# Altium schematic symbol library Interface_CAN_LIN.SchLib: 88 symbols
Pins are listed as number, name and electrical type; pins without a type are passive.

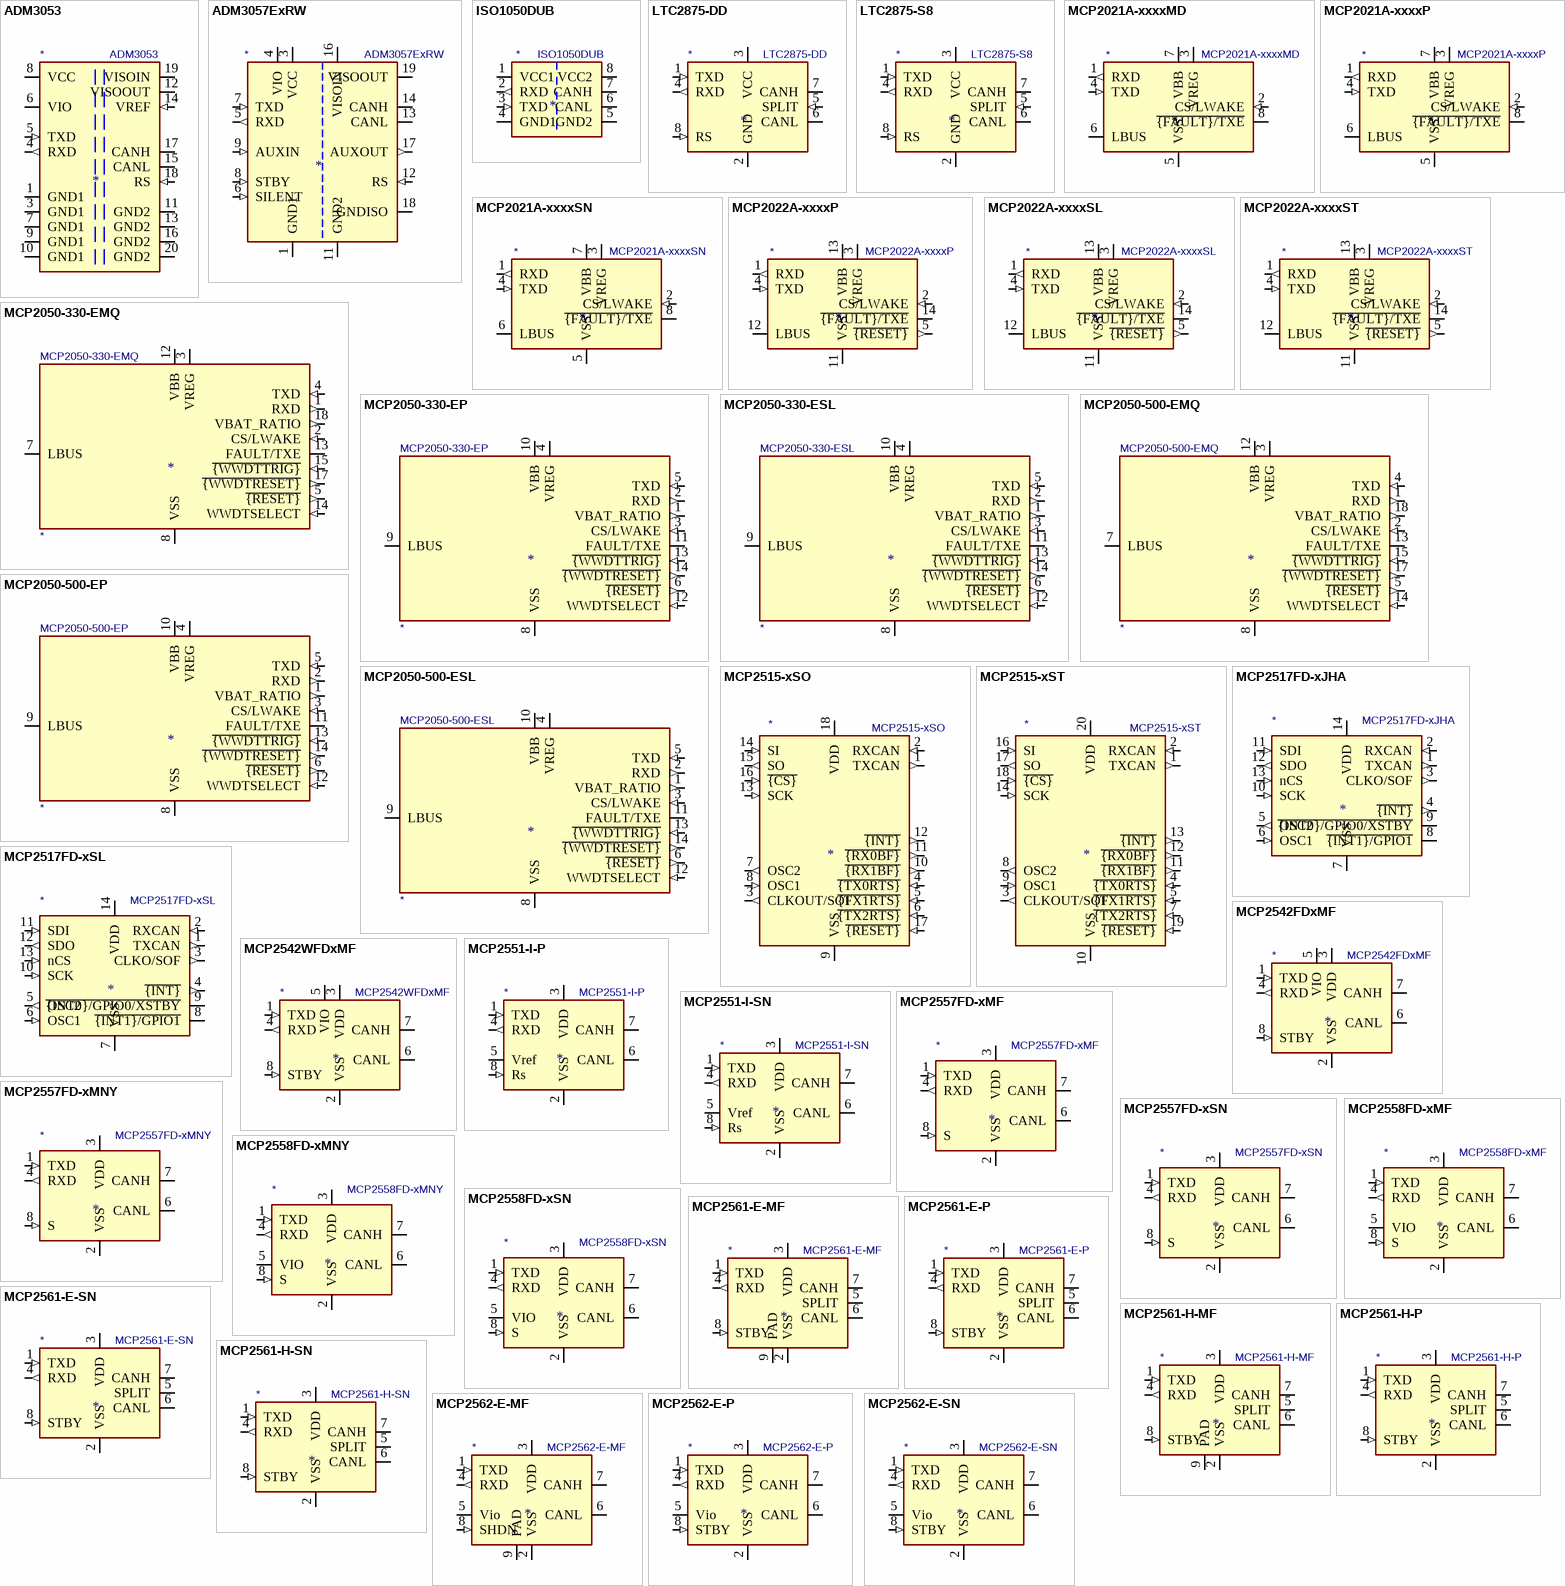
[diagram p0: symbols ADM3053 to MCP2562-E-SN]

## ADM3053
designator *  value ADM3053
ki_keywords: can transceiver isolated protected; ki_description: Isolated CAN Transceiver, integrated isolated DC-DC converter, 1Mbps; ki_fp_filters: SOIC*P1.27mm*; Footprint: Package_SO:SOIC-20W_7.5x12.8mm_P1.27mm; Supplier: https://www.analog.com/media/en/technical-documentation/data-sheets/ADM3053.pdf
footprint SOIC-20W_7.5x12.8mm_P1.27mm
pins: 1 GND1 (power), 2 NC (in) hidden, 3 GND1 (power), 4 RXD (out), 5 TXD (in), 6 VIO (power), 7 GND1 (power), 8 VCC (power), 9 GND1 (power), 10 GND1 (power), 11 GND2 (power), 12 VISOOUT (power), 13 GND2 (power), 14 VREF (in), 15 CANL (io), 16 GND2 (power), 17 CANH (io), 18 RS (in), 19 VISOIN (power), 20 GND2 (power)

## ADM3057ExRW
designator *  value ADM3057ExRW
ki_keywords: can transceiver isolated protected; ki_description: Isolated CAN FD Transceiver, integrated isolated DC-DC converter, 12Mbps, SOIC-20W; ki_fp_filters: SOIC*P1.27mm*; Footprint: Package_SO:SOIC-20W_7.5x12.8mm_P1.27mm; Supplier: https://www.analog.com/media/en/technical-documentation/data-sheets/ADM3055E-3057E.pdf
footprint SOIC-20W_7.5x12.8mm_P1.27mm
pins: 1 GND1 (power), 2 GND1 hidden, 3 VCC (power), 4 VIO (power), 5 RXD (out), 6 SILENT (in), 7 TXD (in), 8 STBY (in), 9 AUXIN (in), 10 GND1 hidden, 11 GND2, 12 RS (in), 13 CANL (io), 14 CANH (io), 15 GND2 hidden, 16 VISOIN, 17 AUXOUT (out), 18 GNDISO, 19 VISOOUT, 20 GNDISO hidden

## ISO1050DUB
designator *  value ISO1050DUB
ki_keywords: CAN Isolated; ki_description: Isolated CAN Transceiver, SOP-8; ki_fp_filters: SOP*6.62x9.15mm*P2.54mm*; Footprint: Package_SO:SOP-8_6.62x9.15mm_P2.54mm; Supplier: http://www.ti.com/lit/ds/symlink/iso1050.pdf
footprint SOP-8_6.62x9.15mm_P2.54mm
pins: 1 VCC1 (power), 2 RXD (out), 3 TXD (in), 4 GND1 (power), 5 GND2 (power), 6 CANL (io), 7 CANH (io), 8 VCC2 (power)

## LTC2875-DD
designator *  value LTC2875-DD
ki_keywords: High-Speed CAN Transceiver; ki_description: High-Speed CAN Transceiver, 4Mbps, 3.3V or 5V supply, DFN-8; ki_fp_filters: DFN*1EP*3x3mm*P0.5mm*; Footprint: Package_DFN_QFN:DFN-8-1EP_3x3mm_P0.5mm_EP1.66x2.38mm; Supplier: https://www.analog.com/media/en/technical-documentation/data-sheets/2875f.pdf
footprint DFN-8-1EP_3x3mm_P0.5mm_EP1.66x2.38mm
pins: 1 TXD (in), 2 GND (power), 3 VCC (power), 4 RXD (out), 5 SPLIT (in), 6 CANL (io), 7 CANH (io), 8 RS (in), 9 GND hidden

## LTC2875-S8
designator *  value LTC2875-S8
ki_keywords: High-Speed CAN Transceiver; ki_description: High-Speed CAN Transceiver, 4Mbps, 3.3V or 5V supply, SOIC-8; ki_fp_filters: SOIC*P1.27mm*; Footprint: Package_SO:SOIC-8_3.9x4.9mm_P1.27mm; Supplier: https://www.analog.com/media/en/technical-documentation/data-sheets/2875f.pdf
footprint SOIC-8_3.9x4.9mm_P1.27mm
pins: 1 TXD (in), 2 GND (power), 3 VCC (power), 4 RXD (out), 5 SPLIT (in), 6 CANL (io), 7 CANH (io), 8 RS (in)

## MCP2021A-xxxxMD
designator *  value MCP2021A-xxxxMD
ki_keywords: LIN Transceiver regulator; ki_description: LIN Transceiver with Voltage Regulator, 3.3V/5V, DFN-8; ki_fp_filters: DFN*4x4mm*P0.8mm*EP2.5x3.6mm*; Footprint: Package_DFN_QFN:DFN-8-1EP_4x4mm_P0.8mm_EP2.5x3.6mm; Supplier: http://ww1.microchip.com/downloads/en/DeviceDoc/20002298C.pdf
footprint DFN-8-1EP_4x4mm_P0.8mm_EP2.5x3.6mm
pins: 1 RXD (out), 2 CS/LWAKE (in), 3 VREG (power), 4 TXD (in), 5 VSS (power), 6 LBUS (oc), 7 VBB (power), 8 ~{{FAULT}/TXE} (oc), 9 VSS hidden

## MCP2021A-xxxxP
designator *  value MCP2021A-xxxxP
ki_keywords: LIN Transceiver regulator; ki_description: LIN Transceiver with Voltage Regulator, 3.3V/5V, DIP-8; ki_fp_filters: DIP*W7.62mm*; Footprint: Package_DIP:DIP-8_W7.62mm; Supplier: http://ww1.microchip.com/downloads/en/DeviceDoc/20002298C.pdf
footprint DIP-8_W7.62mm
pins: 1 RXD (out), 2 CS/LWAKE (in), 3 VREG (power), 4 TXD (in), 5 VSS (power), 6 LBUS (oc), 7 VBB (power), 8 ~{{FAULT}/TXE} (oc)

## MCP2021A-xxxxSN
designator *  value MCP2021A-xxxxSN
ki_keywords: LIN Transceiver regulator; ki_description: LIN Transceiver with Voltage Regulator, 3.3V/5V, SOIC-8; ki_fp_filters: SOIC*3.9x4.9mm*P1.27mm*; Footprint: Package_SO:SOIC-8_3.9x4.9mm_P1.27mm; Supplier: http://ww1.microchip.com/downloads/en/DeviceDoc/20002298C.pdf
footprint SOIC-8_3.9x4.9mm_P1.27mm
pins: 1 RXD (out), 2 CS/LWAKE (in), 3 VREG (power), 4 TXD (in), 5 VSS (power), 6 LBUS (oc), 7 VBB (power), 8 ~{{FAULT}/TXE} (oc)

## MCP2022A-xxxxP
designator *  value MCP2022A-xxxxP
ki_keywords: LIN Transceiver regulator; ki_description: LIN Transceiver with Voltage Regulator, 3.3V/5V, DIP-14; ki_fp_filters: DIP*W7.62mm*; Footprint: Package_DIP:DIP-14_W7.62mm; Supplier: http://ww1.microchip.com/downloads/en/DeviceDoc/20002298C.pdf
footprint DIP-14_W7.62mm
pins: 1 RXD (out), 2 CS/LWAKE (in), 3 VREG (power), 4 TXD (in), 5 ~{{RESET}} (out), 6 NC (in) hidden, 7 NC (in) hidden, 8 NC (in) hidden, 9 NC (in) hidden, 10 NC (in) hidden, 11 VSS (power), 12 LBUS (oc), 13 VBB (power), 14 ~{{FAULT}/TXE} (oc)

## MCP2022A-xxxxSL
designator *  value MCP2022A-xxxxSL
ki_keywords: LIN Transceiver regulator; ki_description: LIN Transceiver with Voltage Regulator, 3.3V/5V, SOIC-14; ki_fp_filters: SOIC*3.9x8.7mm*P1.27mm*; Footprint: Package_SO:SOIC-14_3.9x8.7mm_P1.27mm; Supplier: http://ww1.microchip.com/downloads/en/DeviceDoc/20002298C.pdf
footprint SOIC-14_3.9x8.7mm_P1.27mm
pins: 1 RXD (out), 2 CS/LWAKE (in), 3 VREG (power), 4 TXD (in), 5 ~{{RESET}} (out), 6 NC (in) hidden, 7 NC (in) hidden, 8 NC (in) hidden, 9 NC (in) hidden, 10 NC (in) hidden, 11 VSS (power), 12 LBUS (oc), 13 VBB (power), 14 ~{{FAULT}/TXE} (oc)

## MCP2022A-xxxxST
designator *  value MCP2022A-xxxxST
ki_keywords: LIN Transceiver regulator; ki_description: LIN Transceiver with Voltage Regulator, 3.3V/5V, TSSOP-14; ki_fp_filters: TSSOP*4.4x5mm*P0.65mm*; Footprint: Package_SO:TSSOP-14_4.4x5mm_P0.65mm; Supplier: http://ww1.microchip.com/downloads/en/DeviceDoc/20002298C.pdf
footprint TSSOP-14_4.4x5mm_P0.65mm
pins: 1 RXD (out), 2 CS/LWAKE (in), 3 VREG (power), 4 TXD (in), 5 ~{{RESET}} (out), 6 NC (in) hidden, 7 NC (in) hidden, 8 NC (in) hidden, 9 NC (in) hidden, 10 NC (in) hidden, 11 VSS (power), 12 LBUS (oc), 13 VBB (power), 14 ~{{FAULT}/TXE} (oc)

## MCP2050-330-EMQ
designator *  value MCP2050-330-EMQ
ki_keywords: LIN transceiver regulator; ki_description: LIN Transceiver with Voltage Regulator, 3.3V, QFN-20; ki_fp_filters: QFN*1EP*5x5mm*P0.65mm*; Footprint: Package_DFN_QFN:QFN-20-1EP_5x5mm_P0.65mm_EP3.35x3.35mm; Supplier: http://ww1.microchip.com/downloads/en/DeviceDoc/22299B.pdf
footprint QFN-20-1EP_5x5mm_P0.65mm_EP3.35x3.35mm
pins: 1 RXD (out), 2 CS/LWAKE (in), 3 VREG (power), 4 TXD (in), 5 ~{{RESET}} (out), 6 NC (in) hidden, 7 LBUS (oc), 8 VSS (power), 9 NC (in) hidden, 10 NC (in) hidden, 11 NC (in) hidden, 12 VBB (power), 13 FAULT/TXE (oc), 14 WWDTSELECT (in), 15 ~{{WWDTTRIG}} (in), 16 NC (in) hidden, 17 ~{{WWDTRESET}} (out), 18 VBAT_RATIO (out), 19 NC (in) hidden, 20 NC (in) hidden, 21 PAD (in) hidden

## MCP2050-330-EP
designator *  value MCP2050-330-EP
ki_keywords: LIN transceiver regulator; ki_description: LIN Transceiver with Voltage Regulator, 3.3V, PDIP; ki_fp_filters: DIP*W7.62mm*; Footprint: Package_DIP:DIP-14_W7.62mm; Supplier: http://ww1.microchip.com/downloads/en/DeviceDoc/22299B.pdf
footprint DIP-14_W7.62mm
pins: 1 VBAT_RATIO (out), 2 RXD (out), 3 CS/LWAKE (in), 4 VREG (power), 5 TXD (in), 6 ~{{RESET}} (out), 7 NC (in) hidden, 8 VSS (power), 9 LBUS (oc), 10 VBB (power), 11 FAULT/TXE (oc), 12 WWDTSELECT (in), 13 ~{{WWDTTRIG}} (in), 14 ~{{WWDTRESET}} (out)

## MCP2050-330-ESL
designator *  value MCP2050-330-ESL
ki_keywords: LIN transceiver regulator; ki_description: LIN Transceiver with Voltage Regulator, 3.3V, SOIC-14; ki_fp_filters: SOIC*3.9x8.7mm*P1.27mm*; Footprint: Package_SO:SOIC-14_3.9x8.7mm_P1.27mm; Supplier: http://ww1.microchip.com/downloads/en/DeviceDoc/22299B.pdf
footprint SOIC-14_3.9x8.7mm_P1.27mm
pins: 1 VBAT_RATIO (out), 2 RXD (out), 3 CS/LWAKE (in), 4 VREG (power), 5 TXD (in), 6 ~{{RESET}} (out), 7 NC (in) hidden, 8 VSS (power), 9 LBUS (oc), 10 VBB (power), 11 FAULT/TXE (oc), 12 WWDTSELECT (in), 13 ~{{WWDTTRIG}} (in), 14 ~{{WWDTRESET}} (out)

## MCP2050-500-EMQ
designator *  value MCP2050-500-EMQ
ki_keywords: LIN transceiver regulator; ki_description: LIN Transceiver with Voltage Regulator, 5V, QFN-20; ki_fp_filters: QFN*1EP*5x5mm*P0.65mm*; Footprint: Package_DFN_QFN:QFN-20-1EP_5x5mm_P0.65mm_EP3.35x3.35mm; Supplier: http://ww1.microchip.com/downloads/en/DeviceDoc/22299B.pdf
footprint QFN-20-1EP_5x5mm_P0.65mm_EP3.35x3.35mm
pins: 1 RXD (out), 2 CS/LWAKE (in), 3 VREG (power), 4 TXD (in), 5 ~{{RESET}} (out), 6 NC (in) hidden, 7 LBUS (oc), 8 VSS (power), 9 NC (in) hidden, 10 NC (in) hidden, 11 NC (in) hidden, 12 VBB (power), 13 FAULT/TXE (oc), 14 WWDTSELECT (in), 15 ~{{WWDTTRIG}} (in), 16 NC (in) hidden, 17 ~{{WWDTRESET}} (out), 18 VBAT_RATIO (out), 19 NC (in) hidden, 20 NC (in) hidden, 21 PAD (in) hidden

## MCP2050-500-EP
designator *  value MCP2050-500-EP
ki_keywords: LIN transceiver regulator; ki_description: LIN Transceiver with Voltage Regulator, 5V, PDIP; ki_fp_filters: DIP*W7.62mm*; Footprint: Package_DIP:DIP-14_W7.62mm; Supplier: http://ww1.microchip.com/downloads/en/DeviceDoc/22299B.pdf
footprint DIP-14_W7.62mm
pins: 1 VBAT_RATIO (out), 2 RXD (out), 3 CS/LWAKE (in), 4 VREG (power), 5 TXD (in), 6 ~{{RESET}} (out), 7 NC (in) hidden, 8 VSS (power), 9 LBUS (oc), 10 VBB (power), 11 FAULT/TXE (oc), 12 WWDTSELECT (in), 13 ~{{WWDTTRIG}} (in), 14 ~{{WWDTRESET}} (out)

## MCP2050-500-ESL
designator *  value MCP2050-500-ESL
ki_keywords: LIN transceiver regulator; ki_description: LIN Transceiver with Voltage Regulator, 5V, SOIC-14; ki_fp_filters: SOIC*3.9x8.7mm*P1.27mm*; Footprint: Package_SO:SOIC-14_3.9x8.7mm_P1.27mm; Supplier: http://ww1.microchip.com/downloads/en/DeviceDoc/22299B.pdf
footprint SOIC-14_3.9x8.7mm_P1.27mm
pins: 1 VBAT_RATIO (out), 2 RXD (out), 3 CS/LWAKE (in), 4 VREG (power), 5 TXD (in), 6 ~{{RESET}} (out), 7 NC (in) hidden, 8 VSS (power), 9 LBUS (oc), 10 VBB (power), 11 FAULT/TXE (oc), 12 WWDTSELECT (in), 13 ~{{WWDTTRIG}} (in), 14 ~{{WWDTRESET}} (out)

## MCP2515-xSO
designator *  value MCP2515-xSO
ki_keywords: CAN Controller SPI; ki_description: Stand-Alone CAN Controller with SPI Interface, SOIC-18; ki_fp_filters: SOIC*7.5x11.6mm*P1.27mm*; Footprint: Package_SO:SOIC-18W_7.5x11.6mm_P1.27mm; Supplier: http://ww1.microchip.com/downloads/en/DeviceDoc/21801e.pdf
footprint SOIC-18W_7.5x11.6mm_P1.27mm
pins: 1 TXCAN (out), 2 RXCAN (in), 3 CLKOUT/SOF (out), 4 ~{{TX0RTS}} (in), 5 ~{{TX1RTS}} (in), 6 ~{{TX2RTS}} (in), 7 OSC2 (out), 8 OSC1 (in), 9 VSS (power), 10 ~{{RX1BF}} (out), 11 ~{{RX0BF}} (out), 12 ~{{INT}} (out), 13 SCK (in), 14 SI (in), 15 SO (out), 16 ~{{CS}} (in), 17 ~{{RESET}} (in), 18 VDD (power)

## MCP2515-xST
designator *  value MCP2515-xST
ki_keywords: CAN Controller SPI; ki_description: Stand-Alone CAN Controller with SPI Interface, TSSOP-20; ki_fp_filters: TSSOP*4.4x6.5mm*P0.65mm*; Footprint: Package_SO:TSSOP-20_4.4x6.5mm_P0.65mm; Supplier: http://ww1.microchip.com/downloads/en/DeviceDoc/21801e.pdf
footprint TSSOP-20_4.4x6.5mm_P0.65mm
pins: 1 TXCAN (out), 2 RXCAN (in), 3 CLKOUT/SOF (out), 4 ~{{TX0RTS}} (in), 5 ~{{TX1RTS}} (in), 6 NC (in) hidden, 7 ~{{TX2RTS}} (in), 8 OSC2 (out), 9 OSC1 (in), 10 VSS (power), 11 ~{{RX1BF}} (out), 12 ~{{RX0BF}} (out), 13 ~{{INT}} (out), 14 SCK (in), 15 NC (in) hidden, 16 SI (in), 17 SO (out), 18 ~{{CS}} (in), 19 ~{{RESET}} (in), 20 VDD (power)

## MCP2517FD-xJHA
designator *  value MCP2517FD-xJHA
ki_keywords: CAN FD Controller SPI; ki_description: External CAN FD Controller with SPI Interface, VDFN-14; ki_fp_filters: DFN*3x4.5mm*P0.65mm*EP1.65x4.25mm*; Footprint: Package_DFN_QFN:DFN-14-1EP_3x4.5mm_P0.65mm_EP1.65x4.25mm; Supplier: https://ww1.microchip.com/downloads/en/DeviceDoc/20005688A.pdf
footprint DFN-14-1EP_3x4.5mm_P0.65mm_EP1.65x4.25mm
pins: 1 TXCAN (out), 2 RXCAN (in), 3 CLKO/SOF (out), 4 ~{{INT}} (out), 5 OSC2 (out), 6 OSC1 (in), 7 VSS (power), 8 ~{{INT1}/GPIO1} (io), 9 ~{{INT0}/GPIO0/XSTBY} (io), 10 SCK (in), 11 SDI (in), 12 SDO (out), 13 nCS (in), 14 VDD (power), 15 VSS hidden

## MCP2517FD-xSL
designator *  value MCP2517FD-xSL
ki_keywords: CAN FD Controller SPI; ki_description: External CAN FD Controller with SPI Interface, SOIC-14; ki_fp_filters: SOIC*3.9x8.7mm*P1.27mm*; Footprint: Package_SO:SOIC-14_3.9x8.7mm_P1.27mm; Supplier: https://ww1.microchip.com/downloads/en/DeviceDoc/20005688A.pdf
footprint SOIC-14_3.9x8.7mm_P1.27mm
pins: 1 TXCAN (out), 2 RXCAN (in), 3 CLKO/SOF (out), 4 ~{{INT}} (out), 5 OSC2 (out), 6 OSC1 (in), 7 VSS (power), 8 ~{{INT1}/GPIO1} (io), 9 ~{{INT0}/GPIO0/XSTBY} (io), 10 SCK (in), 11 SDI (in), 12 SDO (out), 13 nCS (in), 14 VDD (power)

## MCP2542FDxMF
designator *  value MCP2542FDxMF
ki_keywords: CAN transceiver; ki_description: CAN-FD Transceiver, Wake-Up on CAN activity, 8Mbps, 5V supply, STBY pin, 3x3 DFN-8; ki_fp_filters: DFN*1EP*3x3mm*P0.65mm*; Footprint: Package_DFN_QFN:DFN-8-1EP_3x3mm_P0.65mm_EP1.55x2.4mm; Supplier: http://ww1.microchip.com/downloads/en/DeviceDoc/MCP2542FD-4FD-MCP2542WFD-4WFD-Data-Sheet20005514B.pdf
footprint DFN-8-1EP_3x3mm_P0.65mm_EP1.55x2.4mm
pins: 1 TXD (in), 2 VSS (power), 3 VDD (power), 4 RXD (out), 5 VIO (power), 6 CANL (io), 7 CANH (io), 8 STBY (in), 9 VSS hidden

## MCP2542WFDxMF
designator *  value MCP2542WFDxMF
ki_keywords: CAN transceiver WUP; ki_description: CAN-FD Transceiver, Wake-Up on CAN Pattern, 8Mbps, 5V supply, STBY pin, 3x3 DFN-8; ki_fp_filters: DFN*1EP*3x3mm*P0.65mm*; Footprint: Package_DFN_QFN:DFN-8-1EP_3x3mm_P0.65mm_EP1.55x2.4mm; Supplier: http://ww1.microchip.com/downloads/en/DeviceDoc/MCP2542FD-4FD-MCP2542WFD-4WFD-Data-Sheet20005514B.pdf
footprint DFN-8-1EP_3x3mm_P0.65mm_EP1.55x2.4mm
pins: 1 TXD (in), 2 VSS (power), 3 VDD (power), 4 RXD (out), 5 VIO (power), 6 CANL (io), 7 CANH (io), 8 STBY (in), 9 VSS hidden

## MCP2551-I-P
designator *  value MCP2551-I-P
ki_keywords: High-Speed CAN Transceiver; ki_description: High-Speed CAN Transceiver, 1Mbps, 5V supply, DIP-8; ki_fp_filters: DIP*W7.62mm*; Footprint: Package_DIP:DIP-8_W7.62mm; Supplier: http://ww1.microchip.com/downloads/en/devicedoc/21667d.pdf
footprint DIP-8_W7.62mm
pins: 1 TXD (in), 2 VSS (power), 3 VDD (power), 4 RXD (out), 5 Vref (power), 6 CANL (io), 7 CANH (io), 8 Rs (in)

## MCP2551-I-SN
designator *  value MCP2551-I-SN
ki_keywords: High-Speed CAN Transceiver; ki_description: High-Speed CAN Transceiver, 1Mbps, 5V supply, SOIC-8; ki_fp_filters: SOIC*3.9x4.9mm*P1.27mm*; Footprint: Package_SO:SOIC-8_3.9x4.9mm_P1.27mm; Supplier: http://ww1.microchip.com/downloads/en/devicedoc/21667d.pdf
footprint SOIC-8_3.9x4.9mm_P1.27mm
pins: 1 TXD (in), 2 VSS (power), 3 VDD (power), 4 RXD (out), 5 Vref (power), 6 CANL (io), 7 CANH (io), 8 Rs (in)

## MCP2557FD-xMF
designator *  value MCP2557FD-xMF
ki_keywords: CAN FD Transceiver; ki_description: CAN FD Transceiver with Silent Mode, up to 8 Mbps, DFN-8; ki_fp_filters: DFN*1EP*3x3mm*P0.65mm*; Footprint: Package_DFN_QFN:DFN-8-1EP_3x3mm_P0.65mm_EP1.55x2.4mm; Supplier: https://ww1.microchip.com/downloads/en/DeviceDoc/20005533A.pdf
footprint DFN-8-1EP_3x3mm_P0.65mm_EP1.55x2.4mm
pins: 1 TXD (in), 2 VSS (power), 3 VDD (power), 4 RXD (out), 5 NC (in) hidden, 6 CANL (io), 7 CANH (io), 8 S (in), 9 VSS hidden

## MCP2557FD-xMNY
designator *  value MCP2557FD-xMNY
ki_keywords: CAN FD Transceiver; ki_description: CAN FD Transceiver with Silent Mode, up to 8 Mbps, TDFN-8; ki_fp_filters: TDFN*1EP*3x2mm*P0.5mm*; Footprint: Package_DFN_QFN:TDFN-8-1EP_3x2mm_P0.5mm_EP1.80x1.65mm; Supplier: https://ww1.microchip.com/downloads/en/DeviceDoc/20005533A.pdf
footprint TDFN-8-1EP_3x2mm_P0.5mm_EP1.80x1.65mm
pins: 1 TXD (in), 2 VSS (power), 3 VDD (power), 4 RXD (out), 5 NC (in) hidden, 6 CANL (io), 7 CANH (io), 8 S (in), 9 VSS hidden

## MCP2557FD-xSN
designator *  value MCP2557FD-xSN
ki_keywords: CAN FD Transceiver; ki_description: CAN FD Transceiver with Silent Mode, up to 8 Mbps, SOIC-8; ki_fp_filters: SOIC*3.9x4.9*P1.27mm*; Footprint: Package_SO:SOIC-8_3.9x4.9mm_P1.27mm; Supplier: https://ww1.microchip.com/downloads/en/DeviceDoc/20005533A.pdf
footprint SOIC-8_3.9x4.9mm_P1.27mm
pins: 1 TXD (in), 2 VSS (power), 3 VDD (power), 4 RXD (out), 5 NC (in) hidden, 6 CANL (io), 7 CANH (io), 8 S (in)

## MCP2558FD-xMF
designator *  value MCP2558FD-xMF
ki_keywords: CAN FD Transceiver; ki_description: CAN FD Transceiver with Silent Mode, up to 8 Mbps, DFN-8; ki_fp_filters: DFN*1EP*3x3mm*P0.65mm*; Footprint: Package_DFN_QFN:DFN-8-1EP_3x3mm_P0.65mm_EP1.55x2.4mm; Supplier: https://ww1.microchip.com/downloads/en/DeviceDoc/20005533A.pdf
footprint DFN-8-1EP_3x3mm_P0.65mm_EP1.55x2.4mm
pins: 1 TXD (in), 2 VSS (power), 3 VDD (power), 4 RXD (out), 5 VIO (power), 6 CANL (io), 7 CANH (io), 8 S (in), 9 VSS hidden

## MCP2558FD-xMNY
designator *  value MCP2558FD-xMNY
ki_keywords: CAN FD Transceiver; ki_description: CAN FD Transceiver with Silent Mode, up to 8 Mbps, TDFN-8; ki_fp_filters: TDFN*1EP*3x2mm*P0.5mm*; Footprint: Package_DFN_QFN:TDFN-8-1EP_3x2mm_P0.5mm_EP1.80x1.65mm; Supplier: https://ww1.microchip.com/downloads/en/DeviceDoc/20005533A.pdf
footprint TDFN-8-1EP_3x2mm_P0.5mm_EP1.80x1.65mm
pins: 1 TXD (in), 2 VSS (power), 3 VDD (power), 4 RXD (out), 5 VIO (power), 6 CANL (io), 7 CANH (io), 8 S (in), 9 VSS hidden

## MCP2558FD-xSN
designator *  value MCP2558FD-xSN
ki_keywords: CAN FD Transceiver; ki_description: CAN FD Transceiver with Silent Mode, up to 8 Mbps, SOIC-8; ki_fp_filters: SOIC*3.9x4.9*P1.27mm*; Footprint: Package_SO:SOIC-8_3.9x4.9mm_P1.27mm; Supplier: https://ww1.microchip.com/downloads/en/DeviceDoc/20005533A.pdf
footprint SOIC-8_3.9x4.9mm_P1.27mm
pins: 1 TXD (in), 2 VSS (power), 3 VDD (power), 4 RXD (out), 5 VIO (power), 6 CANL (io), 7 CANH (io), 8 S (in)

## MCP2561-E-MF
designator *  value MCP2561-E-MF
ki_keywords: High-Speed CAN Transceiver; ki_description: High-Speed CAN Transceiver, 1Mbps, 5V supply, SPLIT pin, -40C to +125C, DFN-8; ki_fp_filters: DFN*1EP*3x3mm*P0.65mm*; Footprint: Package_DFN_QFN:DFN-8-1EP_3x3mm_P0.65mm_EP1.55x2.4mm; Supplier: http://ww1.microchip.com/downloads/en/DeviceDoc/25167A.pdf
footprint DFN-8-1EP_3x3mm_P0.65mm_EP1.55x2.4mm
pins: 1 TXD (in), 2 VSS (power), 3 VDD (power), 4 RXD (out), 5 SPLIT, 6 CANL (io), 7 CANH (io), 8 STBY (in), 9 PAD (power)

## MCP2561-E-P
designator *  value MCP2561-E-P
ki_keywords: High-Speed CAN Transceiver; ki_description: High-Speed CAN Transceiver, 1Mbps, 5V supply, SPLIT pin, -40C to +125C, DIP-8; ki_fp_filters: DIP*W7.62mm*; Footprint: Package_DIP:DIP-8_W7.62mm; Supplier: http://ww1.microchip.com/downloads/en/DeviceDoc/25167A.pdf
footprint DIP-8_W7.62mm
pins: 1 TXD (in), 2 VSS (power), 3 VDD (power), 4 RXD (out), 5 SPLIT, 6 CANL (io), 7 CANH (io), 8 STBY (in)

## MCP2561-E-SN
designator *  value MCP2561-E-SN
ki_keywords: High-Speed CAN Transceiver; ki_description: High-Speed CAN Transceiver, 1Mbps, 5V supply, SPLIT pin, -40C to +125C, SOIC-8; ki_fp_filters: SOIC*3.9x4.9mm*P1.27mm*; Footprint: Package_SO:SOIC-8_3.9x4.9mm_P1.27mm; Supplier: http://ww1.microchip.com/downloads/en/DeviceDoc/25167A.pdf
footprint SOIC-8_3.9x4.9mm_P1.27mm
pins: 1 TXD (in), 2 VSS (power), 3 VDD (power), 4 RXD (out), 5 SPLIT, 6 CANL (io), 7 CANH (io), 8 STBY (in)

## MCP2561-H-MF
designator *  value MCP2561-H-MF
ki_keywords: High-Speed CAN Transceiver; ki_description: High-Speed CAN Transceiver, 1Mbps, 5V supply, SPLIT pin, -40C to +150C, DFN-8; ki_fp_filters: DFN*1EP*3x3mm*P0.65mm*; Footprint: Package_DFN_QFN:DFN-8-1EP_3x3mm_P0.65mm_EP1.55x2.4mm; Supplier: http://ww1.microchip.com/downloads/en/DeviceDoc/25167A.pdf
footprint DFN-8-1EP_3x3mm_P0.65mm_EP1.55x2.4mm
pins: 1 TXD (in), 2 VSS (power), 3 VDD (power), 4 RXD (out), 5 SPLIT, 6 CANL (io), 7 CANH (io), 8 STBY (in), 9 PAD (power)

## MCP2561-H-P
designator *  value MCP2561-H-P
ki_keywords: High-Speed CAN Transceiver; ki_description: High-Speed CAN Transceiver, 1Mbps, 5V supply, SPLIT pin, -40C to +150C, DIP-8; ki_fp_filters: DIP*W7.62mm*; Footprint: Package_DIP:DIP-8_W7.62mm; Supplier: http://ww1.microchip.com/downloads/en/DeviceDoc/25167A.pdf
footprint DIP-8_W7.62mm
pins: 1 TXD (in), 2 VSS (power), 3 VDD (power), 4 RXD (out), 5 SPLIT, 6 CANL (io), 7 CANH (io), 8 STBY (in)

## MCP2561-H-SN
designator *  value MCP2561-H-SN
ki_keywords: High-Speed CAN Transceiver; ki_description: High-Speed CAN Transceiver, 1Mbps, 5V supply, SPLIT pin, -40C to +150C, SOIC-8; ki_fp_filters: SOIC*3.9x4.9mm*P1.27mm*; Footprint: Package_SO:SOIC-8_3.9x4.9mm_P1.27mm; Supplier: http://ww1.microchip.com/downloads/en/DeviceDoc/25167A.pdf
footprint SOIC-8_3.9x4.9mm_P1.27mm
pins: 1 TXD (in), 2 VSS (power), 3 VDD (power), 4 RXD (out), 5 SPLIT, 6 CANL (io), 7 CANH (io), 8 STBY (in)

## MCP2562-E-MF
designator *  value MCP2562-E-MF
ki_keywords: High-Speed CAN Transceiver; ki_description: High-Speed CAN Transceiver, 1Mbps, 5V supply, Vio pin, -40C to +125C, DFN-8; ki_fp_filters: DFN*1EP*3x3mm*P0.65mm*; Footprint: Package_DFN_QFN:DFN-8-1EP_3x3mm_P0.65mm_EP1.55x2.4mm; Supplier: http://ww1.microchip.com/downloads/en/DeviceDoc/25167A.pdf
footprint DFN-8-1EP_3x3mm_P0.65mm_EP1.55x2.4mm
pins: 1 TXD (in), 2 VSS (power), 3 VDD (power), 4 RXD (out), 5 Vio (power), 6 CANL (io), 7 CANH (io), 8 SHDN (in), 9 PAD (power)

## MCP2562-E-P
designator *  value MCP2562-E-P
ki_keywords: High-Speed CAN Transceiver; ki_description: High-Speed CAN Transceiver, 1Mbps, 5V supply, Vio pin, -40C to +125C, DIP-8; ki_fp_filters: DIP*W7.62mm*; Footprint: Package_DIP:DIP-8_W7.62mm; Supplier: http://ww1.microchip.com/downloads/en/DeviceDoc/25167A.pdf
footprint DIP-8_W7.62mm
pins: 1 TXD (in), 2 VSS (power), 3 VDD (power), 4 RXD (out), 5 Vio (power), 6 CANL (io), 7 CANH (io), 8 STBY (in)

## MCP2562-E-SN
designator *  value MCP2562-E-SN
ki_keywords: High-Speed CAN Transceiver; ki_description: High-Speed CAN Transceiver, 1Mbps, 5V supply, Vio pin, -40C to +125C, SOIC-8; ki_fp_filters: SOIC*3.9x4.9mm*P1.27mm*; Footprint: Package_SO:SOIC-8_3.9x4.9mm_P1.27mm; Supplier: http://ww1.microchip.com/downloads/en/DeviceDoc/25167A.pdf
footprint SOIC-8_3.9x4.9mm_P1.27mm
pins: 1 TXD (in), 2 VSS (power), 3 VDD (power), 4 RXD (out), 5 Vio (power), 6 CANL (io), 7 CANH (io), 8 STBY (in)

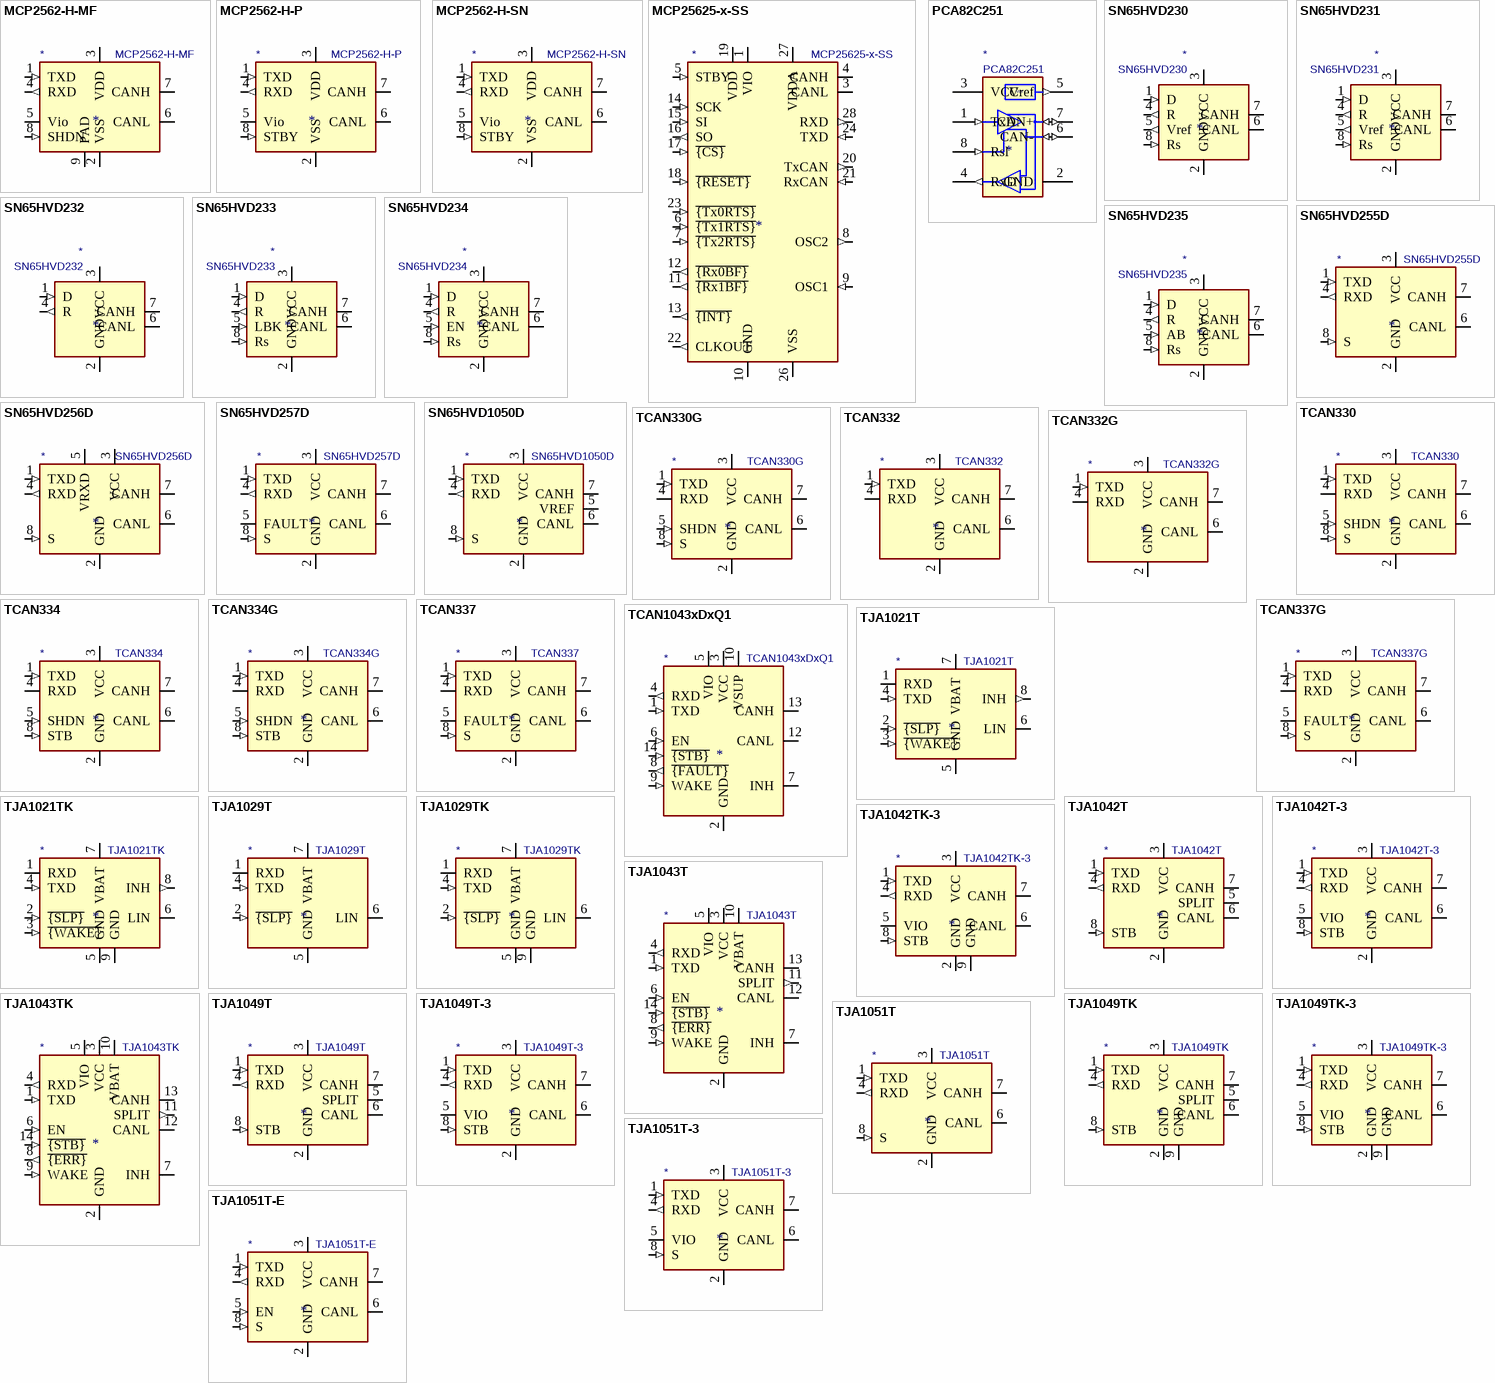
[diagram p1: symbols MCP2562-H-MF to TJA1051T-E]

## MCP2562-H-MF
designator *  value MCP2562-H-MF
ki_keywords: High-Speed CAN Transceiver; ki_description: High-Speed CAN Transceiver, 1Mbps, 5V supply, Vio pin, -40C to +150C, DFN-8; ki_fp_filters: DFN*1EP*3x3mm*P0.65mm*; Footprint: Package_DFN_QFN:DFN-8-1EP_3x3mm_P0.65mm_EP1.55x2.4mm; Supplier: http://ww1.microchip.com/downloads/en/DeviceDoc/25167A.pdf
footprint DFN-8-1EP_3x3mm_P0.65mm_EP1.55x2.4mm
pins: 1 TXD (in), 2 VSS (power), 3 VDD (power), 4 RXD (out), 5 Vio (power), 6 CANL (io), 7 CANH (io), 8 SHDN (in), 9 PAD (power)

## MCP2562-H-P
designator *  value MCP2562-H-P
ki_keywords: High-Speed CAN Transceiver; ki_description: High-Speed CAN Transceiver, 1Mbps, 5V supply, Vio pin, -40C to +150C, DIP-8; ki_fp_filters: DIP*W7.62mm*; Footprint: Package_DIP:DIP-8_W7.62mm; Supplier: http://ww1.microchip.com/downloads/en/DeviceDoc/25167A.pdf
footprint DIP-8_W7.62mm
pins: 1 TXD (in), 2 VSS (power), 3 VDD (power), 4 RXD (out), 5 Vio (power), 6 CANL (io), 7 CANH (io), 8 STBY (in)

## MCP2562-H-SN
designator *  value MCP2562-H-SN
ki_keywords: High-Speed CAN Transceiver; ki_description: High-Speed CAN Transceiver, 1Mbps, 5V supply, Vio pin, -40C to +150C, SOIC-8; ki_fp_filters: SOIC*3.9x4.9mm*P1.27mm*; Footprint: Package_SO:SOIC-8_3.9x4.9mm_P1.27mm; Supplier: http://ww1.microchip.com/downloads/en/DeviceDoc/25167A.pdf
footprint SOIC-8_3.9x4.9mm_P1.27mm
pins: 1 TXD (in), 2 VSS (power), 3 VDD (power), 4 RXD (out), 5 Vio (power), 6 CANL (io), 7 CANH (io), 8 STBY (in)

## MCP25625-x-SS
designator *  value MCP25625-x-SS
ki_keywords: CAN Controller SPI Transceiver; ki_description: Stand-Alone CAN Controller with SPI Interface and integated Transceiver, SSOP-28; ki_fp_filters: SSOP*5.3x10.2mm*P0.65mm*; Footprint: Package_SO:SSOP-28_5.3x10.2mm_P0.65mm; Supplier: http://ww1.microchip.com/downloads/en/DeviceDoc/20005282B.pdf
footprint SSOP-28_5.3x10.2mm_P0.65mm
pins: 1 VIO (power), 2 NC (in) hidden, 3 CANL (io), 4 CANH (io), 5 STBY (in), 6 ~{{Tx1RTS}} (in), 7 ~{{Tx2RTS}} (in), 8 OSC2 (out), 9 OSC1 (in), 10 GND (power), 11 ~{{Rx1BF}} (out), 12 ~{{Rx0BF}} (out), 13 ~{{INT}} (out), 14 SCK (in), 15 SI (in), 16 SO (out), 17 ~{{CS}} (in), 18 ~{{RESET}} (in), 19 VDD (power), 20 TxCAN (out), 21 RxCAN (in), 22 CLKOUT (out), 23 ~{{Tx0RTS}} (in), 24 TXD (in), 25 NC (in) hidden, 26 VSS (power), 27 VDDA (power), 28 RXD (out)

## PCA82C251
designator *  value PCA82C251
ki_keywords: BUS CAN; ki_description: CAN Transceiver for 24V Systems, SO-8; ki_fp_filters: SO*3.9x4.9mm*P1.27mm*; Footprint: Package_SO:SO-8_3.9x4.9mm_P1.27mm; Supplier: http://www.nxp.com/documents/data_sheet/PCA82C251.pdf
footprint SO-8_3.9x4.9mm_P1.27mm
pins: 1 TxD (in), 2 GND (power), 3 VCC (power), 4 RxD (out), 5 Vref (out), 6 CAN- (io), 7 CAN+ (io), 8 Rsl (in)
text: Volt

## SN65HVD230
designator *  value SN65HVD230
ki_keywords: can transeiver ti low-power; ki_description: CAN Bus Transceivers, 3.3V, 1Mbps, Low-Power capabilities, SOIC-8; ki_fp_filters: SOIC*3.9x4.9mm*P1.27mm*; Footprint: Package_SO:SOIC-8_3.9x4.9mm_P1.27mm; Supplier: http://www.ti.com/lit/ds/symlink/sn65hvd230.pdf
footprint SOIC-8_3.9x4.9mm_P1.27mm
pins: 1 D (in), 2 GND (power), 3 VCC (power), 4 R (out), 5 Vref (out), 6 CANL (io), 7 CANH (io), 8 Rs (in)

## SN65HVD231
designator *  value SN65HVD231
ki_keywords: can transeiver ti ulp low-power; ki_description: CAN Bus Transceivers, 3.3V, 1Mbps,Ultra Low-Power capabilities, SOIC-8; ki_fp_filters: SOIC*3.9x4.9mm*P1.27mm*; Footprint: Package_SO:SOIC-8_3.9x4.9mm_P1.27mm; Supplier: http://www.ti.com/lit/ds/symlink/sn65hvd230.pdf
footprint SOIC-8_3.9x4.9mm_P1.27mm
pins: 1 D (in), 2 GND (power), 3 VCC (power), 4 R (out), 5 Vref (out), 6 CANL (io), 7 CANH (io), 8 Rs (in)

## SN65HVD232
designator *  value SN65HVD232
ki_keywords: can transeiver ti; ki_description: CAN Bus Transceivers, 3.3V, 1Mbps, SOIC-8; ki_fp_filters: SOIC*3.9x4.9mm*P1.27mm*; Footprint: Package_SO:SOIC-8_3.9x4.9mm_P1.27mm; Supplier: http://www.ti.com/lit/ds/symlink/sn65hvd230.pdf
footprint SOIC-8_3.9x4.9mm_P1.27mm
pins: 1 D (in), 2 GND (power), 3 VCC (power), 4 R (out), 5 NC (in) hidden, 6 CANL (io), 7 CANH (io), 8 NC (in) hidden

## SN65HVD233
designator *  value SN65HVD233
ki_keywords: can transeiver ti; ki_description: CAN Bus Transceiver, 3.3V, 1Mbps, Loopback feature, SOIC-8; ki_fp_filters: SOIC*3.9x4.9mm*P1.27mm*; Footprint: Package_SO:SOIC-8_3.9x4.9mm_P1.27mm; Supplier: http://www.ti.com/lit/ds/symlink/sn65hvd234.pdf
footprint SOIC-8_3.9x4.9mm_P1.27mm
pins: 1 D (in), 2 GND (power), 3 VCC (power), 4 R (out), 5 LBK (in), 6 CANL (io), 7 CANH (io), 8 Rs (in)

## SN65HVD234
designator *  value SN65HVD234
ki_keywords: can transeiver ti; ki_description: CAN Bus Transceiver, 3.3V, 1Mbps, Enable feature, SOIC-8; ki_fp_filters: SOIC*3.9x4.9mm*P1.27mm*; Footprint: Package_SO:SOIC-8_3.9x4.9mm_P1.27mm; Supplier: http://www.ti.com/lit/ds/symlink/sn65hvd234.pdf
footprint SOIC-8_3.9x4.9mm_P1.27mm
pins: 1 D (in), 2 GND (power), 3 VCC (power), 4 R (out), 5 EN (in), 6 CANL (io), 7 CANH (io), 8 Rs (in)

## SN65HVD235
designator *  value SN65HVD235
ki_keywords: can transeiver ti; ki_description: CAN Bus Transceiver, 3.3V, 1Mbps, Autobaud feature, SOIC-8; ki_fp_filters: SOIC*3.9x4.9mm*P1.27mm*; Footprint: Package_SO:SOIC-8_3.9x4.9mm_P1.27mm; Supplier: http://www.ti.com/lit/ds/symlink/sn65hvd234.pdf
footprint SOIC-8_3.9x4.9mm_P1.27mm
pins: 1 D (in), 2 GND (power), 3 VCC (power), 4 R (out), 5 AB (in), 6 CANL (io), 7 CANH (io), 8 Rs (in)

## SN65HVD255D
designator *  value SN65HVD255D
ki_keywords: can transceiver ti canbus 5.0V 1Mbps SOIC-8; ki_description: CAN Bus Transceiver with Fast Loop Times for Highly Loaded Networks, SOIC-8; ki_fp_filters: SOIC*3.9x4.9mm*P1.27mm*; Footprint: Package_SO:SOIC-8_3.9x4.9mm_P1.27mm; Supplier: https://www.ti.com/lit/ds/symlink/sn65hvd257.pdf
footprint SOIC-8_3.9x4.9mm_P1.27mm
pins: 1 TXD (in), 2 GND (power), 3 VCC (power), 4 RXD (out), 5 NC (in) hidden, 6 CANL (io), 7 CANH (io), 8 S (in)

## SN65HVD256D
designator *  value SN65HVD256D
ki_keywords: can transceiver ti canbus 5.0V 1Mbps SOIC-8; ki_description: CAN Bus Transceiver with Fast Loop Times for Highly Loaded Networks, SOIC-8; ki_fp_filters: SOIC*3.9x4.9mm*P1.27mm*; Footprint: Package_SO:SOIC-8_3.9x4.9mm_P1.27mm; Supplier: https://www.ti.com/lit/ds/symlink/sn65hvd257.pdf
footprint SOIC-8_3.9x4.9mm_P1.27mm
pins: 1 TXD (in), 2 GND (power), 3 VCC (power), 4 RXD (out), 5 VRXD (power), 6 CANL (io), 7 CANH (io), 8 S (in)

## SN65HVD257D
designator *  value SN65HVD257D
ki_keywords: can transceiver ti canbus 5.0V 1Mbps SOIC-8; ki_description: CAN Bus Transceiver with Fast Loop Times for Highly Loaded Networks, SOIC-8; ki_fp_filters: SOIC*3.9x4.9mm*P1.27mm*; Footprint: Package_SO:SOIC-8_3.9x4.9mm_P1.27mm; Supplier: https://www.ti.com/lit/ds/symlink/sn65hvd257.pdf
footprint SOIC-8_3.9x4.9mm_P1.27mm
pins: 1 TXD (in), 2 GND (power), 3 VCC (power), 4 RXD (out), 5 FAULT (oc), 6 CANL (io), 7 CANH (io), 8 S (in)

## SN65HVD1050D
designator *  value SN65HVD1050D
ki_keywords: can transceiver ti canbus; ki_description: CAN Bus Transceiver, EMC optimised, 5.0V, 1Mbps, SOIC-8; ki_fp_filters: SOIC*3.9x4.9mm*P1.27mm*; Footprint: Package_SO:SOIC-8_3.9x4.9mm_P1.27mm; Supplier: http://www.ti.com/lit/ds/symlink/sn65hvd1050.pdf
footprint SOIC-8_3.9x4.9mm_P1.27mm
pins: 1 TXD (in), 2 GND (power), 3 VCC (power), 4 RXD (out), 5 VREF, 6 CANL (io), 7 CANH (io), 8 S (in)

## TCAN330
designator *  value TCAN330
ki_keywords: High-Speed CAN Transceiver; ki_description: High-Speed CAN Transceiver, 1Mbps, 3.3V supply, silent mode, shutdown mode, SOT-23-8/SOIC-8; ki_fp_filters: *TSOT?23* *SOIC*3.9x4.9mm*P1.27mm*; Supplier: http://www.ti.com/lit/ds/symlink/tcan337.pdf
pins: 1 TXD (in), 2 GND (power), 3 VCC (power), 4 RXD (hiz), 5 SHDN (in), 6 CANL (io), 7 CANH (io), 8 S (in)

## TCAN330G
designator *  value TCAN330G
ki_keywords: High-Speed CAN Transceiver; ki_description: High-Speed CAN Transceiver with CAN FD, 5Mbps, 3.3V supply, silent mode, shutdown mode, SOT-23-8/SOIC-8; ki_fp_filters: *TSOT?23* *SOIC*3.9x4.9mm*P1.27mm*; Supplier: http://www.ti.com/lit/ds/symlink/tcan337.pdf
pins: 1 TXD (in), 2 GND (power), 3 VCC (power), 4 RXD (hiz), 5 SHDN (in), 6 CANL (io), 7 CANH (io), 8 S (in)

## TCAN332
designator *  value TCAN332
ki_keywords: High-Speed CAN Transceiver; ki_description: High-Speed CAN Transceiver, 1Mbps, 3.3V supply, SOT-23-8/SOIC-8; ki_fp_filters: *TSOT?23* *SOIC*3.9x4.9mm*P1.27mm*; Supplier: http://www.ti.com/lit/ds/symlink/tcan337.pdf
pins: 1 TXD (in), 2 GND (power), 3 VCC (power), 4 RXD (hiz), 5 NC (in) hidden, 6 CANL (io), 7 CANH (io), 8 NC (in) hidden

## TCAN332G
designator *  value TCAN332G
ki_keywords: High-Speed CAN Transceiver; ki_description: High-Speed CAN Transceiver with CAN FD, 5Mbps, 3.3V supply, SOT-23-8/SOIC-8; ki_fp_filters: *TSOT?23* *SOIC*3.9x4.9mm*P1.27mm*; Supplier: http://www.ti.com/lit/ds/symlink/tcan337.pdf
pins: 1 TXD (in), 2 GND (power), 3 VCC (power), 4 RXD (hiz), 5 NC (in) hidden, 6 CANL (io), 7 CANH (io), 8 NC (in) hidden

## TCAN334
designator *  value TCAN334
ki_keywords: High-Speed CAN Transceiver; ki_description: High-Speed CAN Transceiver, 1Mbps, 3.3V supply, low power standby mode, shutdown mode, SOT-23-8/SOIC-8; ki_fp_filters: *TSOT?23* *SOIC*3.9x4.9mm*P1.27mm*; Supplier: http://www.ti.com/lit/ds/symlink/tcan337.pdf
pins: 1 TXD (in), 2 GND (power), 3 VCC (power), 4 RXD (hiz), 5 SHDN (in), 6 CANL (io), 7 CANH (io), 8 STB (in)

## TCAN334G
designator *  value TCAN334G
ki_keywords: High-Speed CAN Transceiver; ki_description: High-Speed CAN Transceiver with CAN FD, 5Mbps, 3.3V supply, low power standby mode, shutdown mode, SOT-23-8/SOIC-8; ki_fp_filters: *TSOT?23* *SOIC*3.9x4.9mm*P1.27mm*; Supplier: http://www.ti.com/lit/ds/symlink/tcan337.pdf
pins: 1 TXD (in), 2 GND (power), 3 VCC (power), 4 RXD (hiz), 5 SHDN (in), 6 CANL (io), 7 CANH (io), 8 STB (in)

## TCAN337
designator *  value TCAN337
ki_keywords: High-Speed CAN Transceiver; ki_description: High-Speed CAN Transceiver, 1Mbps, 3.3V supply, silent mode, fault output, SOT-23-8/SOIC-8; ki_fp_filters: *TSOT?23* *SOIC*3.9x4.9mm*P1.27mm*; Supplier: http://www.ti.com/lit/ds/symlink/tcan337.pdf
pins: 1 TXD (in), 2 GND (power), 3 VCC (power), 4 RXD (hiz), 5 FAULT (oc), 6 CANL (io), 7 CANH (io), 8 S (in)

## TCAN337G
designator *  value TCAN337G
ki_keywords: High-Speed CAN Transceiver; ki_description: High-Speed CAN Transceiver with CAN FD, 5Mbps, 3.3V supply, silent mode, fault output, SOT-23-8/SOIC-8; ki_fp_filters: *TSOT?23* *SOIC*3.9x4.9mm*P1.27mm*; Supplier: http://www.ti.com/lit/ds/symlink/tcan337.pdf
pins: 1 TXD (in), 2 GND (power), 3 VCC (power), 4 RXD (hiz), 5 FAULT (oc), 6 CANL (io), 7 CANH (io), 8 S (in)

## TCAN1043xDxQ1
designator *  value TCAN1043xDxQ1
ki_keywords: CAN FD High Speed CAN Transceiver Sleep VIO; ki_description: High-speed CAN-FD Transceiver with Sleep Mode, SOIC-14; ki_fp_filters: SOIC*3.9x8.7mm*P1.27mm*; Footprint: Package_SO:SOIC-14_3.9x8.7mm_P1.27mm; Supplier: http://www.ti.com/lit/ds/symlink/tcan1043-q1.pdf
footprint SOIC-14_3.9x8.7mm_P1.27mm
pins: 1 TXD (in), 2 GND (power), 3 VCC (power), 4 RXD (out), 5 VIO (power), 6 EN (in), 7 INH (oe), 8 ~{{FAULT}} (out), 9 WAKE (in), 10 VSUP (power), 11 NC (in) hidden, 12 CANL (io), 13 CANH (io), 14 ~{{STB}} (in)

## TJA1021T
designator *  value TJA1021T
ki_keywords: LIN 2.1 SAE J2602 Transceiver; ki_description: LIN 2.1/SAE J2602 transceiver, SOIC-8; ki_fp_filters: SOIC*3.9x4.9mm*P1.27mm*; Footprint: Package_SO:SOIC-8_3.9x4.9mm_P1.27mm; Supplier: http://www.nxp.com/documents/data_sheet/TJA1021.pdf
footprint SOIC-8_3.9x4.9mm_P1.27mm
pins: 1 RXD (oc), 2 ~{{SLP}} (in), 3 ~{{WAKE}} (in), 4 TXD (in), 5 GND (power), 6 LIN (io), 7 VBAT (power), 8 INH (out)

## TJA1021TK
designator *  value TJA1021TK
ki_keywords: LIN 2.1 SAE J2602 Transceiver HVSON-8; ki_description: LIN 2.1/SAE J2602 transceiver, DFN-8; ki_fp_filters: DFN*1EP*3x3mm*P0.65mm*; Footprint: Package_DFN_QFN:DFN-8-1EP_3x3mm_P0.65mm_EP1.55x2.4mm; Supplier: http://www.nxp.com/documents/data_sheet/TJA1021.pdf
footprint DFN-8-1EP_3x3mm_P0.65mm_EP1.55x2.4mm
pins: 1 RXD (oc), 2 ~{{SLP}} (in), 3 ~{{WAKE}} (in), 4 TXD (in), 5 GND (power), 6 LIN (io), 7 VBAT (power), 8 INH (out), 9 GND (power)

## TJA1029T
designator *  value TJA1029T
ki_keywords: LIN 2.2A/SAE J2602 Transceiver; ki_description: LIN 2.2A/SAE J2602 transceiver with TXD dominant timeout, SOIC-8; ki_fp_filters: SOIC*3.9x4.9mm*P1.27mm*; Footprint: Package_SO:SOIC-8_3.9x4.9mm_P1.27mm; Supplier: http://www.nxp.com/documents/data_sheet/TJA1029.pdf
footprint SOIC-8_3.9x4.9mm_P1.27mm
pins: 1 RXD (oc), 2 ~{{SLP}} (in), 3 NC (in) hidden, 4 TXD (in), 5 GND (power), 6 LIN (io), 7 VBAT (power), 8 NC (in) hidden

## TJA1029TK
designator *  value TJA1029TK
ki_keywords: LIN 2.2A/SAE J2602 Transceiver HVSON-8; ki_description: LIN 2.2A/SAE J2602 transceiver with TXD dominant timeout, DFN-8; ki_fp_filters: DFN*1EP*3x3mm*P0.65mm*; Footprint: Package_DFN_QFN:DFN-8-1EP_3x3mm_P0.65mm_EP1.55x2.4mm; Supplier: http://www.nxp.com/documents/data_sheet/TJA1029.pdf
footprint DFN-8-1EP_3x3mm_P0.65mm_EP1.55x2.4mm
pins: 1 RXD (oc), 2 ~{{SLP}} (in), 3 NC (in) hidden, 4 TXD (in), 5 GND (power), 6 LIN (io), 7 VBAT (power), 8 NC (in) hidden, 9 GND (power)

## TJA1042T
designator *  value TJA1042T
ki_keywords: High-Speed CAN Transceiver; ki_description: High-Speed CAN Transceiver, standby mode, split pin, SOIC-8; ki_fp_filters: SOIC*3.9x4.9mm*P1.27mm*; Footprint: Package_SO:SOIC-8_3.9x4.9mm_P1.27mm; Supplier: http://www.nxp.com/documents/data_sheet/TJA1042.pdf
footprint SOIC-8_3.9x4.9mm_P1.27mm
pins: 1 TXD (in), 2 GND (power), 3 VCC (power), 4 RXD (out), 5 SPLIT (power), 6 CANL (io), 7 CANH (io), 8 STB (in)

## TJA1042T-3
designator *  value TJA1042T-3
ki_keywords: High-Speed CAN Transceiver; ki_description: High-Speed CAN Transceiver, separate VIO, standby mode, SOIC-8; ki_fp_filters: SOIC*3.9x4.9mm*P1.27mm*; Footprint: Package_SO:SOIC-8_3.9x4.9mm_P1.27mm; Supplier: http://www.nxp.com/documents/data_sheet/TJA1042.pdf
footprint SOIC-8_3.9x4.9mm_P1.27mm
pins: 1 TXD (in), 2 GND (power), 3 VCC (power), 4 RXD (out), 5 VIO (power), 6 CANL (io), 7 CANH (io), 8 STB (in)

## TJA1042TK-3
designator *  value TJA1042TK-3
ki_keywords: High-Speed CAN Transceiver HVSON-8; ki_description: High-Speed CAN Transceiver, separate VIO, standby mode, DFN-8-1EP; ki_fp_filters: DFN*1EP*3x3mm*P0.65mm* HVSON*; Footprint: Package_DFN_QFN:DFN-8-1EP_3x3mm_P0.65mm_EP1.55x2.4mm; Supplier: http://www.nxp.com/documents/data_sheet/TJA1042.pdf
footprint DFN-8-1EP_3x3mm_P0.65mm_EP1.55x2.4mm
pins: 1 TXD (in), 2 GND (power), 3 VCC (power), 4 RXD (out), 5 VIO (power), 6 CANL (io), 7 CANH (io), 8 STB (in), 9 GND (power)

## TJA1043T
designator *  value TJA1043T
ki_keywords: CAN FD High Speed CAN Transceiver Sleep Split-Pin VIO; ki_description: High-speed CAN-FD Transceiver with Sleep Mode, SOIC-14; ki_fp_filters: SOIC*3.9x8.7mm*P1.27mm*; Footprint: Package_SO:SOIC-14_3.9x8.7mm_P1.27mm; Supplier: https://www.nxp.com/docs/en/data-sheet/TJA1043.pdf
footprint SOIC-14_3.9x8.7mm_P1.27mm
pins: 1 TXD (in), 2 GND (power), 3 VCC (power), 4 RXD (out), 5 VIO (power), 6 EN (in), 7 INH (oe), 8 ~{{ERR}} (out), 9 WAKE (in), 10 VBAT (power), 11 SPLIT (out), 12 CANL (io), 13 CANH (io), 14 ~{{STB}} (in)

## TJA1043TK
designator *  value TJA1043TK
ki_keywords: CAN FD High Speed CAN Transceiver Sleep Split-Pin VIO; ki_description: High-speed CAN-FD Transceiver with Sleep Mode, HVSON-14; ki_fp_filters: DFN*1EP*3x4.5mm*P0.65mm*; Footprint: Package_DFN_QFN:DFN-14-1EP_3x4.5mm_P0.65mm_EP1.65x4.25mm; Supplier: https://www.nxp.com/docs/en/data-sheet/TJA1043.pdf
footprint DFN-14-1EP_3x4.5mm_P0.65mm_EP1.65x4.25mm
pins: 1 TXD (in), 2 GND (power), 3 VCC (power), 4 RXD (out), 5 VIO (power), 6 EN (in), 7 INH (oe), 8 ~{{ERR}} (out), 9 WAKE (in), 10 VBAT (power), 11 SPLIT (out), 12 CANL (io), 13 CANH (io), 14 ~{{STB}} (in), 15 GND hidden

## TJA1049T
designator *  value TJA1049T
ki_keywords: High-Speed CAN Transceiver; ki_description: High-Speed CAN Transceiver, standby mode, split pin, SOIC-8; ki_fp_filters: SOIC*3.9x4.9mm*P1.27mm*; Footprint: Package_SO:SOIC-8_3.9x4.9mm_P1.27mm; Supplier: http://www.nxp.com/documents/data_sheet/TJA1049.pdf
footprint SOIC-8_3.9x4.9mm_P1.27mm
pins: 1 TXD (in), 2 GND (power), 3 VCC (power), 4 RXD (out), 5 SPLIT (power), 6 CANL (io), 7 CANH (io), 8 STB (in)

## TJA1049T-3
designator *  value TJA1049T-3
ki_keywords: High-Speed CAN Transceiver; ki_description: High-Speed CAN Transceiver, separate VIO, standby mode, SOIC-8; ki_fp_filters: SOIC*3.9x4.9mm*P1.27mm*; Footprint: Package_SO:SOIC-8_3.9x4.9mm_P1.27mm; Supplier: http://www.nxp.com/documents/data_sheet/TJA1049.pdf
footprint SOIC-8_3.9x4.9mm_P1.27mm
pins: 1 TXD (in), 2 GND (power), 3 VCC (power), 4 RXD (out), 5 VIO (power), 6 CANL (io), 7 CANH (io), 8 STB (in)

## TJA1049TK
designator *  value TJA1049TK
ki_keywords: High-Speed CAN Transceiver HVSON-8; ki_description: High-Speed CAN Transceiver, standby mode, DFN-8-1EP; ki_fp_filters: DFN*1EP*3x3mm*P0.65mm* HVSON*; Footprint: Package_DFN_QFN:DFN-8-1EP_3x3mm_P0.65mm_EP1.55x2.4mm; Supplier: http://www.nxp.com/documents/data_sheet/TJA1049.pdf
footprint DFN-8-1EP_3x3mm_P0.65mm_EP1.55x2.4mm
pins: 1 TXD (in), 2 GND (power), 3 VCC (power), 4 RXD (out), 5 SPLIT (power), 6 CANL (io), 7 CANH (io), 8 STB (in), 9 GND (power)

## TJA1049TK-3
designator *  value TJA1049TK-3
ki_keywords: High-Speed CAN Transceiver HVSON-8; ki_description: High-Speed CAN Transceiver, separate VIO, standby mode, DFN-8; ki_fp_filters: DFN*1EP*3x3mm*P0.65mm* HVSON*; Footprint: Package_DFN_QFN:DFN-8-1EP_3x3mm_P0.65mm_EP1.55x2.4mm; Supplier: http://www.nxp.com/documents/data_sheet/TJA1049.pdf
footprint DFN-8-1EP_3x3mm_P0.65mm_EP1.55x2.4mm
pins: 1 TXD (in), 2 GND (power), 3 VCC (power), 4 RXD (out), 5 VIO (power), 6 CANL (io), 7 CANH (io), 8 STB (in), 9 GND (power)

## TJA1051T
designator *  value TJA1051T
ki_keywords: High-Speed CAN Transceiver; ki_description: High-Speed CAN Transceiver, silent mode, SOIC-8; ki_fp_filters: SOIC*3.9x4.9mm*P1.27mm*; Footprint: Package_SO:SOIC-8_3.9x4.9mm_P1.27mm; Supplier: http://www.nxp.com/documents/data_sheet/TJA1051.pdf
footprint SOIC-8_3.9x4.9mm_P1.27mm
pins: 1 TXD (in), 2 GND (power), 3 VCC (power), 4 RXD (out), 5 n.c. (in) hidden, 6 CANL (io), 7 CANH (io), 8 S (in)

## TJA1051T-3
designator *  value TJA1051T-3
ki_keywords: High-Speed CAN Transceiver; ki_description: High-Speed CAN Transceiver, separate VIO, silent mode, SOIC-8; ki_fp_filters: SOIC*3.9x4.9mm*P1.27mm*; Footprint: Package_SO:SOIC-8_3.9x4.9mm_P1.27mm; Supplier: http://www.nxp.com/documents/data_sheet/TJA1051.pdf
footprint SOIC-8_3.9x4.9mm_P1.27mm
pins: 1 TXD (in), 2 GND (power), 3 VCC (power), 4 RXD (out), 5 VIO (power), 6 CANL (io), 7 CANH (io), 8 S (in)

## TJA1051T-E
designator *  value TJA1051T-E
ki_keywords: High-Speed CAN Transceiver; ki_description: High-Speed CAN Transceiver, enable pin, silent mode, SOIC-8; ki_fp_filters: SOIC*3.9x4.9mm*P1.27mm*; Footprint: Package_SO:SOIC-8_3.9x4.9mm_P1.27mm; Supplier: http://www.nxp.com/documents/data_sheet/TJA1051.pdf
footprint SOIC-8_3.9x4.9mm_P1.27mm
pins: 1 TXD (in), 2 GND (power), 3 VCC (power), 4 RXD (out), 5 EN (in), 6 CANL (io), 7 CANH (io), 8 S (in)

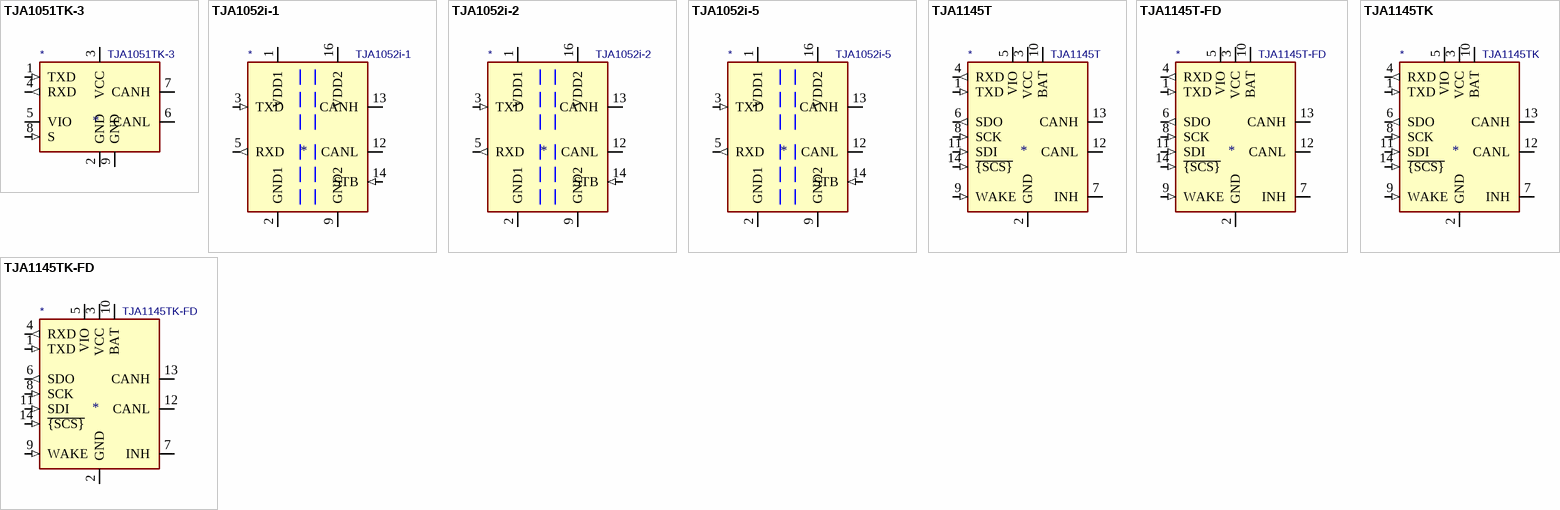
[diagram p2: symbols TJA1051TK-3 to TJA1145TK-FD]

## TJA1051TK-3
designator *  value TJA1051TK-3
ki_keywords: High-Speed CAN Transceiver HVSON-8; ki_description: High-Speed CAN Transceiver, separate VIO, silent mode, DFN-8; ki_fp_filters: DFN*1EP*3x3mm*P0.65mm*; Footprint: Package_DFN_QFN:DFN-8-1EP_3x3mm_P0.65mm_EP1.55x2.4mm; Supplier: http://www.nxp.com/documents/data_sheet/TJA1051.pdf
footprint DFN-8-1EP_3x3mm_P0.65mm_EP1.55x2.4mm
pins: 1 TXD (in), 2 GND (power), 3 VCC (power), 4 RXD (out), 5 VIO (power), 6 CANL (io), 7 CANH (io), 8 S (in), 9 GND (power)

## TJA1052i-1
designator *  value TJA1052i-1
ki_keywords: can transceiver isolated protected; ki_description: Isolated CAN Transceiver 1.0kV, up to 5Mbps; ki_fp_filters: SOIC*7.5x10.3mm*P1.27mm*; Footprint: Package_SO:SOIC-16W_7.5x10.3mm_P1.27mm; Supplier: https://www.nxp.com/docs/en/data-sheet/TJA1052I.pdf
footprint SOIC-16W_7.5x10.3mm_P1.27mm
pins: 1 VDD1 (power), 2 GND1 (power), 3 TXD (in), 4 NC (in) hidden, 5 RXD (out), 6 NC (in) hidden, 7 GND1 hidden, 8 GND1 hidden, 9 GND2 (power), 10 GND2 hidden, 11 VDD2 hidden, 12 CANL (io), 13 CANH (io), 14 STB (in), 15 GND2 hidden, 16 VDD2 (power)

## TJA1052i-2
designator *  value TJA1052i-2
ki_keywords: can transceiver isolated protected; ki_description: Isolated CAN Transceiver 2.5kV, up to 5Mbps; ki_fp_filters: SOIC*7.5x10.3mm*P1.27mm*; Footprint: Package_SO:SOIC-16W_7.5x10.3mm_P1.27mm; Supplier: https://www.nxp.com/docs/en/data-sheet/TJA1052I.pdf
footprint SOIC-16W_7.5x10.3mm_P1.27mm
pins: 1 VDD1 (power), 2 GND1 (power), 3 TXD (in), 4 NC (in) hidden, 5 RXD (out), 6 NC (in) hidden, 7 GND1 hidden, 8 GND1 hidden, 9 GND2 (power), 10 GND2 hidden, 11 VDD2 hidden, 12 CANL (io), 13 CANH (io), 14 STB (in), 15 GND2 hidden, 16 VDD2 (power)

## TJA1052i-5
designator *  value TJA1052i-5
ki_keywords: can transceiver isolated protected; ki_description: Isolated CAN Transceiver 5.0kV, up to 5Mbps; ki_fp_filters: SOIC*7.5x10.3mm*P1.27mm*; Footprint: Package_SO:SOIC-16W_7.5x10.3mm_P1.27mm; Supplier: https://www.nxp.com/docs/en/data-sheet/TJA1052I.pdf
footprint SOIC-16W_7.5x10.3mm_P1.27mm
pins: 1 VDD1 (power), 2 GND1 (power), 3 TXD (in), 4 NC (in) hidden, 5 RXD (out), 6 NC (in) hidden, 7 GND1 hidden, 8 GND1 hidden, 9 GND2 (power), 10 GND2 hidden, 11 VDD2 hidden, 12 CANL (io), 13 CANH (io), 14 STB (in), 15 GND2 hidden, 16 VDD2 (power)

## TJA1145T
designator *  value TJA1145T
ki_keywords: CAN FD High Speed CAN Transceiver Sleep VIO Partial Networking SPI; ki_description: High-speed CAN transceiver for partial networking, SOIC-14; ki_fp_filters: SOIC*3.9x8.7mm*P1.27mm*; Footprint: Package_SO:SOIC-14_3.9x8.7mm_P1.27mm; Supplier: https://www.nxp.com/docs/en/data-sheet/TJA1145.pdf
footprint SOIC-14_3.9x8.7mm_P1.27mm
pins: 1 TXD (in), 2 GND (power), 3 VCC (power), 4 RXD (out), 5 VIO (power), 6 SDO (out), 7 INH (oe), 8 SCK (in), 9 WAKE (in), 10 BAT (power), 11 SDI (in), 12 CANL (io), 13 CANH (io), 14 ~{{SCS}} (in)

## TJA1145T-FD
designator *  value TJA1145T-FD
ki_keywords: CAN FD High Speed CAN Transceiver Sleep VIO Partial Networking SPI; ki_description: High-speed CAN transceiver for partial networking with FD-passive function, SOIC-14; ki_fp_filters: SOIC*3.9x8.7mm*P1.27mm*; Footprint: Package_SO:SOIC-14_3.9x8.7mm_P1.27mm; Supplier: https://www.nxp.com/docs/en/data-sheet/TJA1145.pdf
footprint SOIC-14_3.9x8.7mm_P1.27mm
pins: 1 TXD (in), 2 GND (power), 3 VCC (power), 4 RXD (out), 5 VIO (power), 6 SDO (out), 7 INH (oe), 8 SCK (in), 9 WAKE (in), 10 BAT (power), 11 SDI (in), 12 CANL (io), 13 CANH (io), 14 ~{{SCS}} (in)

## TJA1145TK
designator *  value TJA1145TK
ki_keywords: CAN FD High Speed CAN Transceiver Sleep VIO Partial Networking SPI; ki_description: High-speed CAN transceiver for partial networking, DFN-14; ki_fp_filters: DFN*1EP*3x4.5mm*P0.65mm*; Footprint: Package_DFN_QFN:DFN-14-1EP_3x4.5mm_P0.65mm_EP1.65x4.25mm; Supplier: https://www.nxp.com/docs/en/data-sheet/TJA1145.pdf
footprint DFN-14-1EP_3x4.5mm_P0.65mm_EP1.65x4.25mm
pins: 1 TXD (in), 2 GND (power), 3 VCC (power), 4 RXD (out), 5 VIO (power), 6 SDO (out), 7 INH (oe), 8 SCK (in), 9 WAKE (in), 10 BAT (power), 11 SDI (in), 12 CANL (io), 13 CANH (io), 14 ~{{SCS}} (in), 15 GND hidden

## TJA1145TK-FD
designator *  value TJA1145TK-FD
ki_keywords: CAN FD High Speed CAN Transceiver Sleep VIO Partial Networking SPI; ki_description: High-speed CAN transceiver for partial networking with FD-passive function, DFN-14; ki_fp_filters: DFN*1EP*3x4.5mm*P0.65mm*; Footprint: Package_DFN_QFN:DFN-14-1EP_3x4.5mm_P0.65mm_EP1.65x4.25mm; Supplier: https://www.nxp.com/docs/en/data-sheet/TJA1145.pdf
footprint DFN-14-1EP_3x4.5mm_P0.65mm_EP1.65x4.25mm
pins: 1 TXD (in), 2 GND (power), 3 VCC (power), 4 RXD (out), 5 VIO (power), 6 SDO (out), 7 INH (oe), 8 SCK (in), 9 WAKE (in), 10 BAT (power), 11 SDI (in), 12 CANL (io), 13 CANH (io), 14 ~{{SCS}} (in), 15 GND hidden